# EAGLE library part RELAIS_2-POL-UM (library e-schuetze-relais)
Relais mit 2 Wechsleschalter
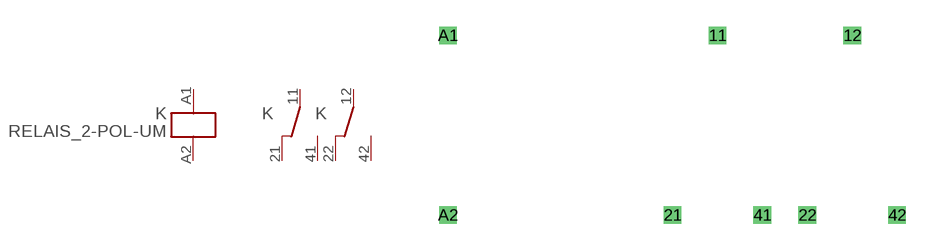
[diagram p18: symbol with the pads of RELAIS_2-POL-UM; footprint RELAIS_2-POL-UM]

Designator prefix K; gates G$1=SPULE 1=WECHSLER 2=WECHSLER

## RELAIS_2-POL-UM  [RELAIS_2-POL-UM]
11  1:1  pas
12  2:1  pas
21  1:2  pas
22  2:2  pas
41  1:4  pas
42  2:4  pas
A1  G$1:A1  in
A2  G$1:A2  in

## Footprint RELAIS_2-POL-UM (pad centres in mm)
Dummy
drill 0.5 pad 1 square: 11 5.08,2.54; 12 12.7,2.54; 21 2.54,-7.62; 22 10.16,-7.62; 41 7.62,-7.62; 42 15.24,-7.62; A1 -10.16,2.54; A2 -10.16,-7.62